# Altium footprint library SL_Other.PcbLib: 72 footprints (part 3 of 5)
Each footprint in its own frame and in the unit in brackets; x right, y up, seen from the top. Pads: shape width x height; smd on the part's side, far side on the other; paste and mask are expansions set on the pad; w line width, h text height; cw(c..) or ccw(c..) is an arc to the next point about the centre after c.
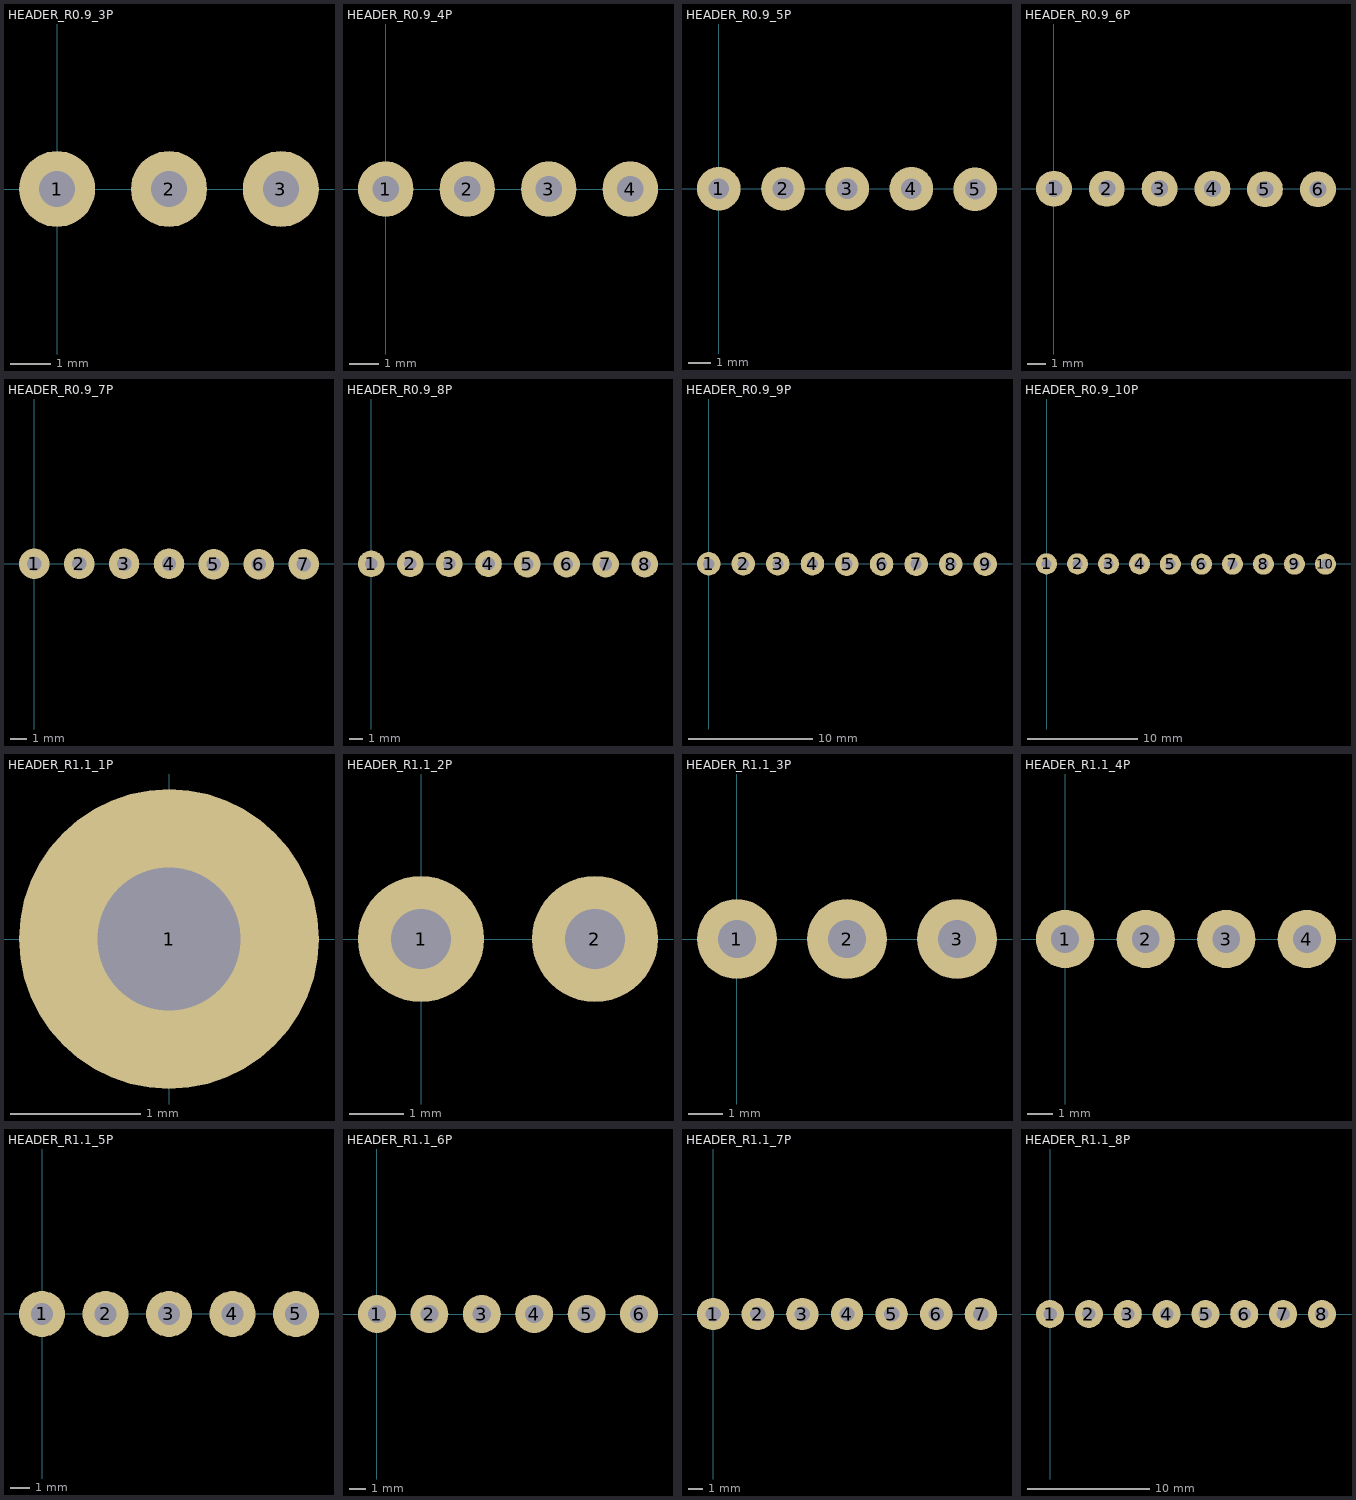
[diagram p2: the footprints below, top view; thin cyan lines are the x and y axes]

## HEADER_R0.9_3P [mm]
pads (3):
  round 1.9 hole 0.9: 1(0,0) 2(2.794,0) 3(5.588,0)

## HEADER_R0.9_4P [mm]
pads (4):
  round 1.9 hole 0.9: 1(0,0) 2(2.794,0) 3(5.588,0) 4(8.382,0)

## HEADER_R0.9_5P [mm]
pads (5):
  round 1.9 hole 0.9: 1(0,0) 2(2.794,0) 3(5.588,0) 4(8.382,0) 5(11.16,-0.028)

## HEADER_R0.9_6P [mm]
pads (6):
  round 1.9 hole 0.9: 1(0,0) 2(2.794,0) 3(5.588,0) 4(8.382,0) 5(11.16,-0.028) 6(13.97,-0.028)

## HEADER_R0.9_7P [mm]
pads (7):
  round 1.9 hole 0.9: 1(0,0) 2(2.794,0) 3(5.588,0) 4(8.382,0) 5(11.16,-0.028) 6(13.97,-0.028) 7(16.764,-0.028)

## HEADER_R0.9_8P [mm]
pads (8):
  round 1.9 hole 0.9: 1(0,0) 2(2.794,0) 3(5.588,0) 4(8.382,0) 5(11.16,-0.028) 6(13.97,-0.028) 7(16.764,-0.028) 8(19.558,-0.028)

## HEADER_R0.9_9P [mm]
pads (9):
  round 1.9 hole 0.9: 1(0,0) 2(2.794,0) 3(5.588,0) 4(8.382,0) 5(11.16,-0.028) 6(13.97,-0.028) 7(16.764,-0.028) 8(19.558,-0.028) 9(22.352,-0.028)

## HEADER_R0.9_10P [mm]
pads (10):
  round 1.9 hole 0.9: 1(0,0) 2(2.794,0) 3(5.588,0) 4(8.382,0) 5(11.16,-0.028) 6(13.97,-0.028) 7(16.764,-0.028) 8(19.558,-0.028) 9(22.352,-0.028) 10(25.146,-0.028)

## HEADER_R1.1_1P [mm]
pads (1):
  round 2.3 hole 1.1: 1(0,0)

## HEADER_R1.1_2P [mm]
pads (2):
  round 2.3 hole 1.1: 1(0,0) 2(3.175,0)

## HEADER_R1.1_3P [mm]
pads (3):
  round 2.3 hole 1.1: 1(0,0) 2(3.175,0) 3(6.35,0)

## HEADER_R1.1_4P [mm]
pads (4):
  round 2.3 hole 1.1: 1(0,0) 2(3.175,0) 3(6.35,0) 4(9.525,0)

## HEADER_R1.1_5P [mm]
pads (5):
  round 2.3 hole 1.1: 1(0,0) 2(3.175,0) 3(6.35,0) 4(9.525,0) 5(12.7,0)

## HEADER_R1.1_6P [mm]
pads (6):
  round 2.3 hole 1.1: 1(0,0) 2(3.175,0) 3(6.35,0) 4(9.525,0) 5(12.7,0) 6(15.875,0)

## HEADER_R1.1_7P [mm]
pads (7):
  round 2.3 hole 1.1: 1(0,0) 2(3.175,0) 3(6.35,0) 4(9.525,0) 5(12.7,0) 6(15.875,0) 7(19.05,0)

## HEADER_R1.1_8P [mm]
pads (8):
  round 2.3 hole 1.1: 1(0,0) 2(3.175,0) 3(6.35,0) 4(9.525,0) 5(12.7,0) 6(15.875,0) 7(19.05,0) 8(22.225,0)